# Altium footprint library 410-357-B.PcbLib: 3 footprints
Each footprint in its own frame and in the unit in brackets; x right, y up, seen from the top. Pads: shape width x height; smd on the part's side, far side on the other; paste and mask are expansions set on the pad; w line width, h text height; cw(c..) or ccw(c..) is an arc to the next point about the centre after c.
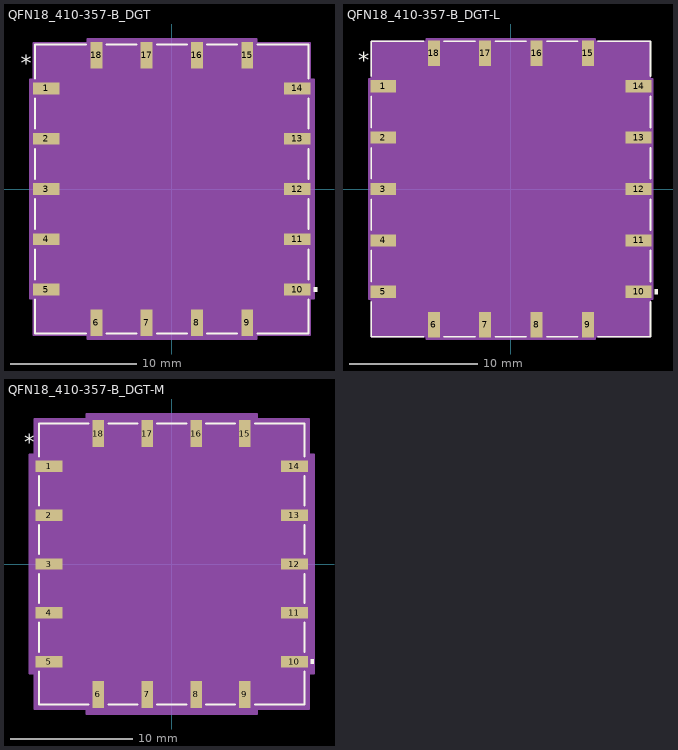
[diagram p0: the footprints below, top view; thin cyan lines are the x and y axes]

## QFN18_410-357-B_DGT [mm]
pads (18):
  rect 2.1x0.941 smd paste+0 mask+0: 1(-9.994,8) 2(-9.994,4) 3(-9.994,0) 4(-9.994,-4) 5(-9.994,-8) 10(9.994,-8) 11(9.994,-4) 12(9.994,0) 13(9.994,4) 14(9.994,8)
  rect 0.941x2.1 smd paste+0 mask+0: 6(-6,-10.629) 7(-2,-10.629) 8(2,-10.629) 9(6,-10.629) 15(6,10.629) 16(2,10.629) 17(-2,10.629) 18(-6,10.629)
Top Overlay:
  region: 11.298,-7.809 11.552,-7.809 11.552,-8.19 11.298,-8.19
  lines w0.152: -10.871,-8.803 -10.871,-11.506 -6.803,-11.506 ; -10.871,-7.197 -10.871,-4.803 ; -10.871,-3.197 -10.871,-0.803 ; -10.871,0.803 -10.871,3.197 ; -10.871,4.803 -10.871,7.197 ; -10.871,8.803 -10.871,11.506 -6.803,11.506 ; -5.197,-11.506 -2.803,-11.506 ; -5.197,11.506 -2.803,11.506 ; -1.197,-11.506 1.197,-11.506 ; -1.197,11.506 1.197,11.506 ; 2.803,-11.506 5.197,-11.506 ; 2.803,11.506 5.197,11.506 ; 6.803,-11.506 10.871,-11.506 10.871,-8.803 ; 6.803,11.506 10.871,11.506 10.871,8.803 ; 10.871,-7.197 10.871,-4.803 ; 10.871,-3.197 10.871,-0.803 ; 10.871,0.803 10.871,3.197 ; 10.871,4.803 10.871,7.197
  text "*" at -11.997,9.365 h1.27
  text ".Designator" at -3.492,-0.635 h1.27
Mechanical 13:
  lines w0.025: -10.744,10.109 -9.474,11.379 ; -10.744,-11.379 10.744,-11.379 ; -10.744,-11.379 -10.744,11.379 ; -10.744,-11.379 -10.744,-11.379 ; -10.744,-8.495 -10.744,-7.505 ; -10.744,-8.495 -10.744,-7.505 ; -10.744,-8.495 -10.744,-8.495 ; -10.744,-7.505 -10.744,-7.505 ; -10.744,-4.495 -10.744,-3.505 ; -10.744,-4.495 -10.744,-3.505 ; -10.744,-4.495 -10.744,-4.495 ; -10.744,-3.505 -10.744,-3.505 ; -10.744,-0.495 -10.744,0.495 ; -10.744,-0.495 -10.744,0.495 ; -10.744,-0.495 -10.744,-0.495 ; -10.744,0.495 -10.744,0.495 ; -10.744,3.505 -10.744,4.495 ; -10.744,3.505 -10.744,4.495 ; -10.744,3.505 -10.744,3.505 ; -10.744,4.495 -10.744,4.495 ; -10.744,7.505 -10.744,8.495 ; -10.744,7.505 -10.744,8.495 ; -10.744,7.505 -10.744,7.505 ; -10.744,8.495 -10.744,8.495 ; -10.744,11.379 10.744,11.379 ; -10.744,11.379 -10.744,11.379 ; -6.495,-11.379 -5.505,-11.379 ; -6.495,-11.379 -6.495,-11.379 ; -6.495,-11.379 -5.505,-11.379 ; -6.495,11.379 -5.505,11.379 ; -6.495,11.379 -5.505,11.379 ; -6.495,11.379 -6.495,11.379 ; -5.505,-11.379 -5.505,-11.379 ; -5.505,11.379 -5.505,11.379 ; -2.495,-11.379 -1.505,-11.379 ; -2.495,-11.379 -2.495,-11.379 ; -2.495,-11.379 -1.505,-11.379 ; -2.495,11.379 -1.505,11.379 ; -2.495,11.379 -1.505,11.379 ; -2.495,11.379 -2.495,11.379 ; -1.505,-11.379 -1.505,-11.379 ; -1.505,11.379 -1.505,11.379 ; 1.505,-11.379 2.495,-11.379 ; 1.505,-11.379 1.505,-11.379 ; 1.505,-11.379 2.495,-11.379 ; 1.505,11.379 2.495,11.379 ; 1.505,11.379 2.495,11.379 ; 1.505,11.379 1.505,11.379 ; 2.495,-11.379 2.495,-11.379 ; 2.495,11.379 2.495,11.379 ; 5.505,-11.379 6.495,-11.379 ; 5.505,-11.379 5.505,-11.379 ; 5.505,-11.379 6.495,-11.379 ; 5.505,11.379 6.495,11.379 ; 5.505,11.379 6.495,11.379 ; 5.505,11.379 5.505,11.379 ; 6.495,-11.379 6.495,-11.379 ; 6.495,11.379 6.495,11.379 ; 10.744,-11.379 10.744,-11.379 ; 10.744,-11.379 10.744,11.379 ; 10.744,-8.495 10.744,-7.505 ; 10.744,-8.495 10.744,-8.495 ; 10.744,-8.495 10.744,-7.505 ; 10.744,-7.505 10.744,-7.505 ; 10.744,-4.495 10.744,-3.505 ; 10.744,-4.495 10.744,-4.495 ; 10.744,-4.495 10.744,-3.505 ; 10.744,-3.505 10.744,-3.505 ; 10.744,-0.495 10.744,0.495 ; 10.744,-0.495 10.744,-0.495 ; 10.744,-0.495 10.744,0.495 ; 10.744,0.495 10.744,0.495 ; 10.744,3.505 10.744,4.495 ; 10.744,3.505 10.744,3.505 ; 10.744,3.505 10.744,4.495 ; 10.744,4.495 10.744,4.495 ; 10.744,7.505 10.744,8.495 ; 10.744,7.505 10.744,7.505 ; 10.744,7.505 10.744,8.495 ; 10.744,8.495 10.744,8.495 ; 10.744,11.379 10.744,11.379
  text ".Designator" at -3.492,-0.635 h1.27
  text "*" at -9.262,9.365 h1.27
Mechanical 15:
  region: -6.724,-11.633 -10.998,-11.633 -10.998,-8.724 -11.298,-8.724 -11.298,8.724 -10.998,8.724 -10.998,11.633 -6.724,11.633 -6.724,11.933 6.724,11.933 6.724,11.633 10.998,11.633 10.998,8.724 11.298,8.724 11.298,-8.724 10.998,-8.724 10.998,-11.633 6.724,-11.633 6.724,-11.933 -6.724,-11.933
  lines w0.152: -11.298,-8.724 -10.998,-8.724 -10.998,-11.633 -6.724,-11.633 -6.724,-11.933 6.724,-11.933 6.724,-11.633 10.998,-11.633 10.998,-8.724 11.298,-8.724 11.298,8.724 10.998,8.724 10.998,11.633 6.724,11.633 6.724,11.933 -6.724,11.933 -6.724,11.633 -10.998,11.633 -10.998,8.724 -11.298,8.724 -11.298,-8.724
3D body "QFN18_410-357-B_DGT.step": height 2.49, standoff 0, extent -10.744,-11.379 10.744,11.379

## QFN18_410-357-B_DGT-L [mm]
pads (18):
  rect 2x0.941 smd paste+0 mask+0: 1(-9.944,8) 2(-9.944,4) 3(-9.944,0) 4(-9.944,-4) 5(-9.944,-8) 10(9.944,-8) 11(9.944,-4) 12(9.944,0) 13(9.944,4) 14(9.944,8)
  rect 0.941x2 smd paste+0 mask+0: 6(-6,-10.579) 7(-2,-10.579) 8(2,-10.579) 9(6,-10.579) 15(6,10.579) 16(2,10.579) 17(-2,10.579) 18(-6,10.579)
Top Overlay:
  region: 11.198,-7.809 11.452,-7.809 11.452,-8.19 11.198,-8.19
  lines w0.152: -10.871,-8.803 -10.871,-11.506 -6.803,-11.506 ; -10.871,-7.197 -10.871,-4.803 ; -10.871,-3.197 -10.871,-0.803 ; -10.871,0.803 -10.871,3.197 ; -10.871,4.803 -10.871,7.197 ; -10.871,8.803 -10.871,11.506 -6.803,11.506 ; -5.197,-11.506 -2.803,-11.506 ; -5.197,11.506 -2.803,11.506 ; -1.197,-11.506 1.197,-11.506 ; -1.197,11.506 1.197,11.506 ; 2.803,-11.506 5.197,-11.506 ; 2.803,11.506 5.197,11.506 ; 6.803,-11.506 10.871,-11.506 10.871,-8.803 ; 6.803,11.506 10.871,11.506 10.871,8.803 ; 10.871,-7.197 10.871,-4.803 ; 10.871,-3.197 10.871,-0.803 ; 10.871,0.803 10.871,3.197 ; 10.871,4.803 10.871,7.197
  text "*" at -11.897,9.365 h1.27
  text ".Designator" at -3.492,-0.635 h1.27
Mechanical 13:
  lines w0.025: -10.744,10.109 -9.474,11.379 ; -10.744,-11.379 10.744,-11.379 ; -10.744,-11.379 -10.744,11.379 ; -10.744,-11.379 -10.744,-11.379 ; -10.744,-8.495 -10.744,-7.505 ; -10.744,-8.495 -10.744,-7.505 ; -10.744,-8.495 -10.744,-8.495 ; -10.744,-7.505 -10.744,-7.505 ; -10.744,-4.495 -10.744,-3.505 ; -10.744,-4.495 -10.744,-3.505 ; -10.744,-4.495 -10.744,-4.495 ; -10.744,-3.505 -10.744,-3.505 ; -10.744,-0.495 -10.744,0.495 ; -10.744,-0.495 -10.744,0.495 ; -10.744,-0.495 -10.744,-0.495 ; -10.744,0.495 -10.744,0.495 ; -10.744,3.505 -10.744,4.495 ; -10.744,3.505 -10.744,4.495 ; -10.744,3.505 -10.744,3.505 ; -10.744,4.495 -10.744,4.495 ; -10.744,7.505 -10.744,8.495 ; -10.744,7.505 -10.744,8.495 ; -10.744,7.505 -10.744,7.505 ; -10.744,8.495 -10.744,8.495 ; -10.744,11.379 10.744,11.379 ; -10.744,11.379 -10.744,11.379 ; -6.495,-11.379 -5.505,-11.379 ; -6.495,-11.379 -6.495,-11.379 ; -6.495,-11.379 -5.505,-11.379 ; -6.495,11.379 -5.505,11.379 ; -6.495,11.379 -5.505,11.379 ; -6.495,11.379 -6.495,11.379 ; -5.505,-11.379 -5.505,-11.379 ; -5.505,11.379 -5.505,11.379 ; -2.495,-11.379 -1.505,-11.379 ; -2.495,-11.379 -2.495,-11.379 ; -2.495,-11.379 -1.505,-11.379 ; -2.495,11.379 -1.505,11.379 ; -2.495,11.379 -1.505,11.379 ; -2.495,11.379 -2.495,11.379 ; -1.505,-11.379 -1.505,-11.379 ; -1.505,11.379 -1.505,11.379 ; 1.505,-11.379 2.495,-11.379 ; 1.505,-11.379 1.505,-11.379 ; 1.505,-11.379 2.495,-11.379 ; 1.505,11.379 2.495,11.379 ; 1.505,11.379 2.495,11.379 ; 1.505,11.379 1.505,11.379 ; 2.495,-11.379 2.495,-11.379 ; 2.495,11.379 2.495,11.379 ; 5.505,-11.379 6.495,-11.379 ; 5.505,-11.379 5.505,-11.379 ; 5.505,-11.379 6.495,-11.379 ; 5.505,11.379 6.495,11.379 ; 5.505,11.379 6.495,11.379 ; 5.505,11.379 5.505,11.379 ; 6.495,-11.379 6.495,-11.379 ; 6.495,11.379 6.495,11.379 ; 10.744,-11.379 10.744,-11.379 ; 10.744,-11.379 10.744,11.379 ; 10.744,-8.495 10.744,-7.505 ; 10.744,-8.495 10.744,-8.495 ; 10.744,-8.495 10.744,-7.505 ; 10.744,-7.505 10.744,-7.505 ; 10.744,-4.495 10.744,-3.505 ; 10.744,-4.495 10.744,-4.495 ; 10.744,-4.495 10.744,-3.505 ; 10.744,-3.505 10.744,-3.505 ; 10.744,-0.495 10.744,0.495 ; 10.744,-0.495 10.744,-0.495 ; 10.744,-0.495 10.744,0.495 ; 10.744,0.495 10.744,0.495 ; 10.744,3.505 10.744,4.495 ; 10.744,3.505 10.744,3.505 ; 10.744,3.505 10.744,4.495 ; 10.744,4.495 10.744,4.495 ; 10.744,7.505 10.744,8.495 ; 10.744,7.505 10.744,7.505 ; 10.744,7.505 10.744,8.495 ; 10.744,8.495 10.744,8.495 ; 10.744,11.379 10.744,11.379
  text ".Designator" at -3.492,-0.635 h1.27
  text "*" at -9.262,9.365 h1.27
Mechanical 15:
  region: -6.572,-11.481 -10.846,-11.481 -10.846,-8.572 -11.046,-8.572 -11.046,8.572 -10.846,8.572 -10.846,11.481 -6.572,11.481 -6.572,11.681 6.572,11.681 6.572,11.481 10.846,11.481 10.846,8.572 11.046,8.572 11.046,-8.572 10.846,-8.572 10.846,-11.481 6.572,-11.481 6.572,-11.681 -6.572,-11.681
  lines w0.152: -11.046,-8.572 -10.846,-8.572 -10.846,-11.481 -6.572,-11.481 -6.572,-11.681 6.572,-11.681 6.572,-11.481 10.846,-11.481 10.846,-8.572 11.046,-8.572 11.046,8.572 10.846,8.572 10.846,11.481 6.572,11.481 6.572,11.681 -6.572,11.681 -6.572,11.481 -10.846,11.481 -10.846,8.572 -11.046,8.572 -11.046,-8.572
3D body "QFN18_410-357-B_DGT.step": height 2.49, standoff 0, extent -10.744,-11.379 10.744,11.379

## QFN18_410-357-B_DGT-M [mm]
pads (18):
  rect 2.2x0.941 smd paste+0 mask+0: 1(-10.044,8) 2(-10.044,4) 3(-10.044,0) 4(-10.044,-4) 5(-10.044,-8) 10(10.044,-8) 11(10.044,-4) 12(10.044,0) 13(10.044,4) 14(10.044,8)
  rect 0.941x2.2 smd paste+0 mask+0: 6(-6,-10.679) 7(-2,-10.679) 8(2,-10.679) 9(6,-10.679) 15(6,10.679) 16(2,10.679) 17(-2,10.679) 18(-6,10.679)
Top Overlay:
  region: 11.398,-7.809 11.652,-7.809 11.652,-8.19 11.398,-8.19
  lines w0.152: -10.871,-8.803 -10.871,-11.506 -6.803,-11.506 ; -10.871,-7.197 -10.871,-4.803 ; -10.871,-3.197 -10.871,-0.803 ; -10.871,0.803 -10.871,3.197 ; -10.871,4.803 -10.871,7.197 ; -10.871,8.803 -10.871,11.506 -6.803,11.506 ; -5.197,-11.506 -2.803,-11.506 ; -5.197,11.506 -2.803,11.506 ; -1.197,-11.506 1.197,-11.506 ; -1.197,11.506 1.197,11.506 ; 2.803,-11.506 5.197,-11.506 ; 2.803,11.506 5.197,11.506 ; 6.803,-11.506 10.871,-11.506 10.871,-8.803 ; 6.803,11.506 10.871,11.506 10.871,8.803 ; 10.871,-7.197 10.871,-4.803 ; 10.871,-3.197 10.871,-0.803 ; 10.871,0.803 10.871,3.197 ; 10.871,4.803 10.871,7.197
  text "*" at -12.097,9.365 h1.27
  text ".Designator" at -3.492,-0.635 h1.27
Mechanical 13:
  lines w0.025: -10.744,10.109 -9.474,11.379 ; -10.744,-11.379 10.744,-11.379 ; -10.744,-11.379 -10.744,11.379 ; -10.744,-11.379 -10.744,-11.379 ; -10.744,-8.495 -10.744,-7.505 ; -10.744,-8.495 -10.744,-7.505 ; -10.744,-8.495 -10.744,-8.495 ; -10.744,-7.505 -10.744,-7.505 ; -10.744,-4.495 -10.744,-3.505 ; -10.744,-4.495 -10.744,-3.505 ; -10.744,-4.495 -10.744,-4.495 ; -10.744,-3.505 -10.744,-3.505 ; -10.744,-0.495 -10.744,0.495 ; -10.744,-0.495 -10.744,0.495 ; -10.744,-0.495 -10.744,-0.495 ; -10.744,0.495 -10.744,0.495 ; -10.744,3.505 -10.744,4.495 ; -10.744,3.505 -10.744,4.495 ; -10.744,3.505 -10.744,3.505 ; -10.744,4.495 -10.744,4.495 ; -10.744,7.505 -10.744,8.495 ; -10.744,7.505 -10.744,8.495 ; -10.744,7.505 -10.744,7.505 ; -10.744,8.495 -10.744,8.495 ; -10.744,11.379 10.744,11.379 ; -10.744,11.379 -10.744,11.379 ; -6.495,-11.379 -5.505,-11.379 ; -6.495,-11.379 -6.495,-11.379 ; -6.495,-11.379 -5.505,-11.379 ; -6.495,11.379 -5.505,11.379 ; -6.495,11.379 -5.505,11.379 ; -6.495,11.379 -6.495,11.379 ; -5.505,-11.379 -5.505,-11.379 ; -5.505,11.379 -5.505,11.379 ; -2.495,-11.379 -1.505,-11.379 ; -2.495,-11.379 -2.495,-11.379 ; -2.495,-11.379 -1.505,-11.379 ; -2.495,11.379 -1.505,11.379 ; -2.495,11.379 -1.505,11.379 ; -2.495,11.379 -2.495,11.379 ; -1.505,-11.379 -1.505,-11.379 ; -1.505,11.379 -1.505,11.379 ; 1.505,-11.379 2.495,-11.379 ; 1.505,-11.379 1.505,-11.379 ; 1.505,-11.379 2.495,-11.379 ; 1.505,11.379 2.495,11.379 ; 1.505,11.379 2.495,11.379 ; 1.505,11.379 1.505,11.379 ; 2.495,-11.379 2.495,-11.379 ; 2.495,11.379 2.495,11.379 ; 5.505,-11.379 6.495,-11.379 ; 5.505,-11.379 5.505,-11.379 ; 5.505,-11.379 6.495,-11.379 ; 5.505,11.379 6.495,11.379 ; 5.505,11.379 6.495,11.379 ; 5.505,11.379 5.505,11.379 ; 6.495,-11.379 6.495,-11.379 ; 6.495,11.379 6.495,11.379 ; 10.744,-11.379 10.744,-11.379 ; 10.744,-11.379 10.744,11.379 ; 10.744,-8.495 10.744,-7.505 ; 10.744,-8.495 10.744,-8.495 ; 10.744,-8.495 10.744,-7.505 ; 10.744,-7.505 10.744,-7.505 ; 10.744,-4.495 10.744,-3.505 ; 10.744,-4.495 10.744,-4.495 ; 10.744,-4.495 10.744,-3.505 ; 10.744,-3.505 10.744,-3.505 ; 10.744,-0.495 10.744,0.495 ; 10.744,-0.495 10.744,-0.495 ; 10.744,-0.495 10.744,0.495 ; 10.744,0.495 10.744,0.495 ; 10.744,3.505 10.744,4.495 ; 10.744,3.505 10.744,3.505 ; 10.744,3.505 10.744,4.495 ; 10.744,4.495 10.744,4.495 ; 10.744,7.505 10.744,8.495 ; 10.744,7.505 10.744,7.505 ; 10.744,7.505 10.744,8.495 ; 10.744,8.495 10.744,8.495 ; 10.744,11.379 10.744,11.379
  text ".Designator" at -3.492,-0.635 h1.27
  text "*" at -9.262,9.365 h1.27
Mechanical 15:
  region: -6.978,-11.887 -11.252,-11.887 -11.252,-8.978 -11.652,-8.978 -11.652,8.978 -11.252,8.978 -11.252,11.887 -6.978,11.887 -6.978,12.287 6.978,12.287 6.978,11.887 11.252,11.887 11.252,8.978 11.652,8.978 11.652,-8.978 11.252,-8.978 11.252,-11.887 6.978,-11.887 6.978,-12.287 -6.978,-12.287
  lines w0.152: -11.652,-8.978 -11.252,-8.978 -11.252,-11.887 -6.978,-11.887 -6.978,-12.287 6.978,-12.287 6.978,-11.887 11.252,-11.887 11.252,-8.978 11.652,-8.978 11.652,8.978 11.252,8.978 11.252,11.887 6.978,11.887 6.978,12.287 -6.978,12.287 -6.978,11.887 -11.252,11.887 -11.252,8.978 -11.652,8.978 -11.652,-8.978
3D body "QFN18_410-357-B_DGT.step": height 2.49, standoff 0, extent -10.744,-11.379 10.744,11.379